# Altium schematic symbol library NNLightSwitcher.SchLib: 97 symbols (part 1 of 3)
Pins are listed as number, name and electrical type; pins without a type are passive.

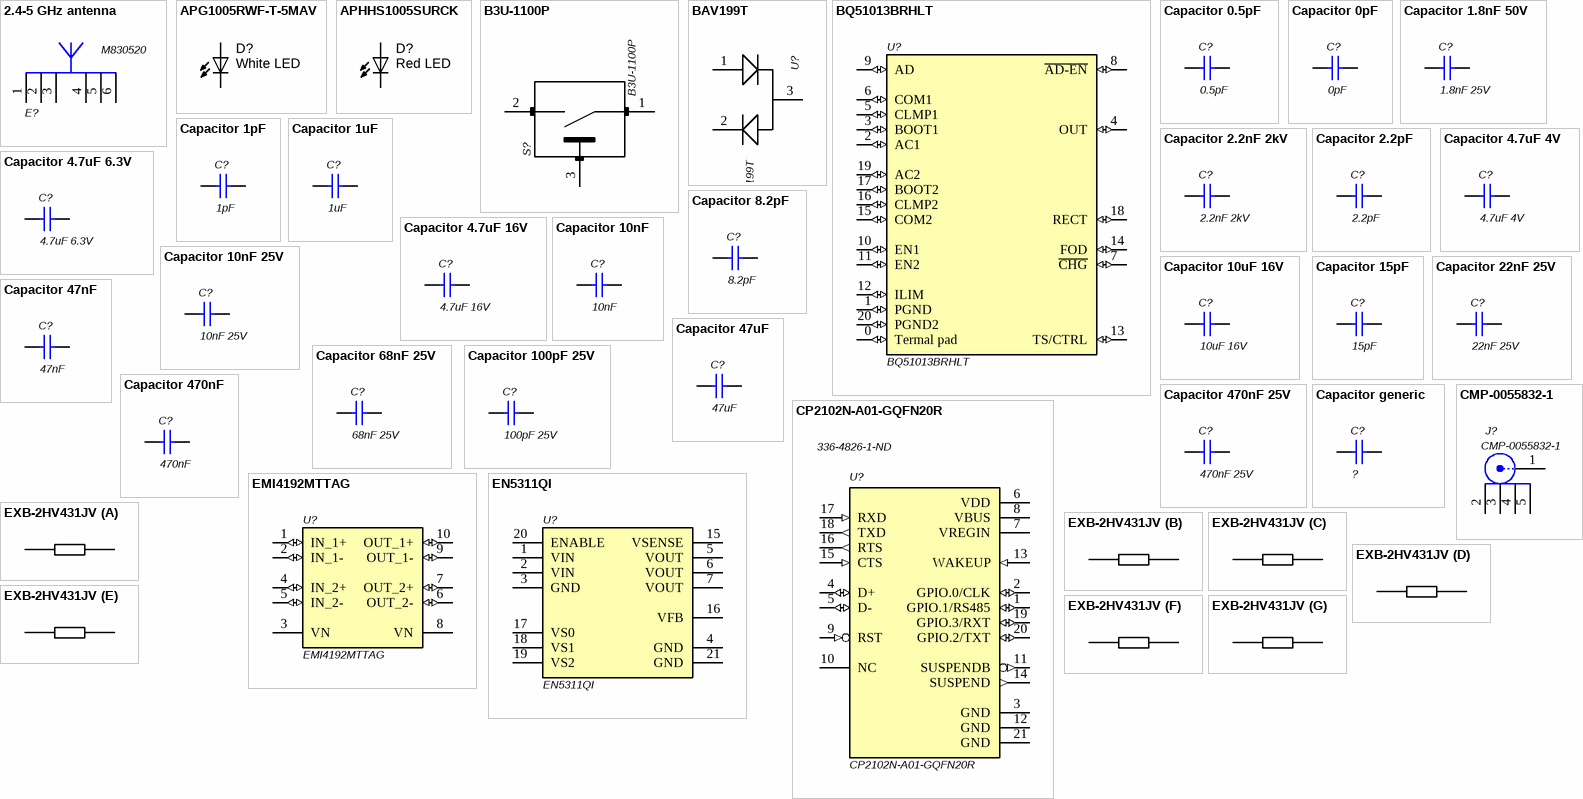
[diagram p0: symbols 2.4-5 GHz antenna to EXB-2HV431JV]

## 2.4-5 GHz antenna
designator E?, comment M830520
WLAN ANTENNA 802.11, SMD; Manufacturer 1: Ethertronics; ComponentLink1Description: Datasheet URL; ComponentLink1URL: http://www.ethertronics.com/files/6014/0708/4228/Savvi_WLAN__8x3_M830510.pdf; Supplier 1: Digi-Key; Manufacturer Part Number 1: M830520; Stock 1: 10391; Pricing 1: 1=2,09000, 10=1,87400, 25=1,76800, 100=1,50630, 250=1,41440, 500=1,23760 (USD); RoHS: No; ComponentLink2URL: https://media.digikey.com/pdf/Data%20Sheets/Ethertronics/M830520.pdf?src-supplier=Digi-Key; ComponentLink2Description: https://media.digikey.com/pdf/Data%20Sheets/Ethertronics/M830520.pdf?src-supplier=Digi-Key; Supplier Part Number 1: 939-1070-1-ND
footprint Ethertronics_M830520 (SMD, 6-Leads, Body 8x3mm)
pins: 1 Feed, 2 GND (power), 3 GND (power), 4 Feed, 5, 6

## APG1005RWF-T-5MAV
designator D?, comment White LED
LED red 0402 / APG1005RWF-T-5MAV; Manufacturer 1: Kingbright; Lens Color: Yellow; Luminous Intensity: 85mcd; Test Current: 5mA; Viewing Angle: 120°; Forward Voltage: 2.9V; ComponentLink1URL: https://datasheet.ciiva.com/15198/getdatasheetpartid-569583-15198505.pdf?src-supplier=Verical; ComponentLink1Description: https://datasheet.ciiva.com/15198/getdatasheetpartid-569583-15198505.pdf?src-supplier=Verical; ComponentLink2URL: https://datasheet.ciiva.com/2114/aphhs1005surck-2114140.pdf?src-supplier=Digi-Key; ComponentLink2Description: https://datasheet.ciiva.com/2114/aphhs1005surck-2114140.pdf?src-supplier=Digi-Key; ComponentLink3URL: https://datasheet.ciiva.com/4689/aphhs1005surck-32322-4689068.pdf?src-supplier=Mouser; ComponentLink3Description: https://datasheet.ciiva.com/4689/aphhs1005surck-32322-4689068.pdf?src-supplier=Mouser; ComponentLink4URL: https://datasheet.ciiva.com/14603/70062833-14603899.pdf?src-supplier=Allied+Electronics; ComponentLink4Description: https://datasheet.ciiva.com/14603/70062833-14603899.pdf?src-supplier=Allied+Electronics; ComponentLink5URL: https://datasheet.ciiva.com/2114/aphhs1005surck-2114141.pdf?src-supplier=Digi-Key; ComponentLink5Description: https://datasheet.ciiva.com/2114/aphhs1005surck-2114141.pdf?src-supplier=Digi-Key; ComponentLink6URL: https://datasheet.ciiva.com/2114/aphhs1005surck-2114142.pdf?src-supplier=Digi-Key; ComponentLink6Description: https://datasheet.ciiva.com/2114/aphhs1005surck-2114142.pdf?src-supplier=Digi-Key; Supplier 1: Digi-Key; Manufacturer Part Number 1: APG1005RWF-T-5MAV; Stock 1: 14703; Pricing 1: 1=0,61000, 10=0,47900, 100=0,30710, 500=0,26412, 1000=0,20393 (USD); RoHS: Yes; Mount: Surface Mount; Case/Package: 0402; Color: White; Case Code (Metric): 1005; Case Code (Imperial): 0402; Package Quantity: 1; Packaging: Tape and Reel; Length: 1mm; Height: 0.25mm; Width: 0.5mm; Lead Free: Lead Free; ComponentLink7URL: https://datasheet.ciiva.com/29562/apg1005rwf-t-5mav-29562261.pdf?src-supplier=Digi-Key; ComponentLink7Description: https://datasheet.ciiva.com/29562/apg1005rwf-t-5mav-29562261.pdf?src-supplier=Digi-Key; ComponentLink8URL: https://datasheet.ciiva.com/29562/apg1005rwf-t-5mav-29562262.pdf?src-supplier=Digi-Key; ComponentLink8Description: https://datasheet.ciiva.com/29562/apg1005rwf-t-5mav-29562262.pdf?src-supplier=Digi-Key; ComponentLink9URL: https://datasheet.ciiva.com/29562/apg1005rwf-t-5mav-29562263.pdf?src-supplier=Digi-Key; ComponentLink9Description: https://datasheet.ciiva.com/29562/apg1005rwf-t-5mav-29562263.pdf?src-supplier=Digi-Key
footprint *LED_SML-P11UTT86R_SML-P11MTT86(Primary)
pins: A, C

## APHHS1005SURCK
designator D?, comment Red LED
LED red 0402; Manufacturer 1: Kingbright; Manufacturer Part Number 1: APHHS1005SURCK; Lens Color: Clear; Forward Current: 20mA; Forward Voltage: 1.95V; Luminous Intensity: 220mcd; Viewing Angle: 120°; Lens Style: Clear,Flat; Dominant Wavelength: 630nm; Number of LEDs: 1; Wavelength: 635nm; ComponentLink1URL: https://datasheet.ciiva.com/15198/getdatasheetpartid-569583-15198505.pdf?src-supplier=Verical; ComponentLink1Description: https://datasheet.ciiva.com/15198/getdatasheetpartid-569583-15198505.pdf?src-supplier=Verical; Supplier 1: Digi-Key; Stock 1: 30423; Pricing 1: 1=0,42000, 10=0,30400, 100=0,19820, 500=0,14248, 1000=0,11151 (USD); RoHS: Yes; Mount: Surface Mount; Case/Package: 0402; Number of Pins: 2; Color: Red; Case Code (Metric): 1005; Case Code (Imperial): 0402; Min Operating Temperature: -40°C; Max Operating Temperature: 85°C; Illumination Color: Red; Packaging: Tape and Reel; Package Quantity: 2000; Test Current: 20mA; Length: 1mm; Height: 0.6mm; Width: 0.5mm; Lead Free: Lead Free; ComponentLink2URL: https://datasheet.ciiva.com/2114/aphhs1005surck-2114140.pdf?src-supplier=Digi-Key; ComponentLink2Description: https://datasheet.ciiva.com/2114/aphhs1005surck-2114140.pdf?src-supplier=Digi-Key; ComponentLink3URL: https://datasheet.ciiva.com/4689/aphhs1005surck-32322-4689068.pdf?src-supplier=Mouser; ComponentLink3Description: https://datasheet.ciiva.com/4689/aphhs1005surck-32322-4689068.pdf?src-supplier=Mouser; ComponentLink4URL: https://datasheet.ciiva.com/14603/70062833-14603899.pdf?src-supplier=Allied+Electronics; ComponentLink4Description: https://datasheet.ciiva.com/14603/70062833-14603899.pdf?src-supplier=Allied+Electronics; ComponentLink5URL: https://datasheet.ciiva.com/2114/aphhs1005surck-2114141.pdf?src-supplier=Digi-Key; ComponentLink5Description: https://datasheet.ciiva.com/2114/aphhs1005surck-2114141.pdf?src-supplier=Digi-Key; ComponentLink6URL: https://datasheet.ciiva.com/2114/aphhs1005surck-2114142.pdf?src-supplier=Digi-Key; ComponentLink6Description: https://datasheet.ciiva.com/2114/aphhs1005surck-2114142.pdf?src-supplier=Digi-Key
footprint *LED_SML-P11UTT86R_SML-P11MTT86(Primary)
pins: A, C

## B3U-1100P
designator S?
Switch Tactile N.O. SPST Projected Plunger PC Pins 0.05A 24VDC 1.47N Thru-Hole Bag; Manufacturer 1: Omron; Mechanical Life: 200000Cycles; Operating Force: 1.5N; Voltage Rating (DC): 12V; Contact Resistance: 100mR; Current Rating: 50mA; Illumination Type: Non-Illuminated,Illuminated; Switch Travel: 0.15mm; Switch Function: Off-Mom; Actuator Type: Standard; Actuator Length: 0.4mm; Ratings: Dust Proof; Supplier 1: Mouser; Manufacturer Part Number 1: B3U-1100P; Stock 1: 10341; Pricing 1: 1=1,00000, 10=0,96100, 25=0,90700, 50=0,79800, 100=0,72600, 250=0,68900, 500=0,61000, 1000=0,52600, 3500=0,51500, 10000=0,51500 (USD); RoHS: Yes; Mount: Surface Mount; Weight: 0.022g; Contact Plating: Silver; Min Operating Temperature: -25°C; Max Operating Temperature: 70°C; Throw Configuration: SPST; Packaging: Tape and Reel; Max Voltage Rating (DC): 12V; Package Quantity: 1; Electrical Life: 200000Cycles; Orientation: Straight; Termination: SMD/SMT; Max Current Rating: 50mA; Contact Current Rating: 50mA; Length: 3.15mm; Depth: 4mm; REACH SVHC: Unknown; Lead Free: Lead Free; ComponentLink1URL: https://datasheet.ciiva.com/1634/60838-1634404.pdf?src-supplier=Farnell; ComponentLink1Description: https://datasheet.ciiva.com/1634/60838-1634404.pdf?src-supplier=Farnell; ComponentLink2URL: https://datasheet.ciiva.com/30197/en-b3u-30197271.pdf?src-supplier=Onlinecomponents.com; ComponentLink2Description: https://datasheet.ciiva.com/30197/en-b3u-30197271.pdf?src-supplier=Onlinecomponents.com; ComponentLink3URL: https://datasheet.ciiva.com/22696/60838-22696216.pdf?src-supplier=Element14; ComponentLink3Description: https://datasheet.ciiva.com/22696/60838-22696216.pdf?src-supplier=Element14; ComponentLink4URL: https://datasheet.ciiva.com/2901/b3u-1110-2901097.pdf?src-supplier=Digi-Key; ComponentLink4Description: https://datasheet.ciiva.com/2901/b3u-1110-2901097.pdf?src-supplier=Digi-Key; ComponentLink5URL: https://datasheet.ciiva.com/2901/b3u-1110-2901098.pdf?src-supplier=Digi-Key; ComponentLink5Description: https://datasheet.ciiva.com/2901/b3u-1110-2901098.pdf?src-supplier=Digi-Key; ComponentLink6URL: https://datasheet.ciiva.com/2901/b3u-1110-2901099.pdf?src-supplier=Digi-Key; ComponentLink6Description: https://datasheet.ciiva.com/2901/b3u-1110-2901099.pdf?src-supplier=Digi-Key; ComponentLink7URL: https://datasheet.ciiva.com/1532/60838-1532684.pdf?src-supplier=Element14; ComponentLink7Description: https://datasheet.ciiva.com/1532/60838-1532684.pdf?src-supplier=Element14; ComponentLink8URL: https://datasheet.ciiva.com/14142/b3u-eng-datasheet-14142541.pdf?src-supplier=Distrelec; ComponentLink8Description: https://datasheet.ciiva.com/14142/b3u-eng-datasheet-14142541.pdf?src-supplier=Distrelec; ComponentLink9URL: https://datasheet.ciiva.com/16155/en-b3u-16155023.pdf?src-supplier=Onlinecomponents.com; ComponentLink9Description: https://datasheet.ciiva.com/16155/en-b3u-16155023.pdf?src-supplier=Onlinecomponents.com; Supplier Part Number 1: 653-B3U-1100P
footprint *SW_B3U-1100P
pins: 1, 2, 3

## BAV199T
designator U?
DIODE, SS, DUAL, 85V, 0.125A, SOT523; Diode Type: Standard Recovery; Forward Current If_AV_: 215mA; Repetitive Revers...; Manufacturer 1: Diodes; Manufacturer Part Number 1: BAS40-04-7-F; MF: Micro Commercial; Forward Current: 200mA; Reverse Recovery Time: 5ns; Peak Non-Repetitive Surge Current: 600mA; Max Repetitive Reverse Voltage (Vrrm): 40V; Forward Voltage: 1V; Capacitance: 5pF; Peak Reverse Current: 200nA; Power Rating: 350mW; Package: SOT-23 Micro Commercial; MP: BAV199T; Availability: Unavailable; Price: None; SnapEDA_Link: https://www.snapeda.com/parts/BAV199T/Micro%20Commercial/view-part/?ref=snap; Value: *; Supplier 1: Mouser; Stock 1: 161984; Pricing 1: 1=0,33000, 10=0,21700, 50=0,21700, 100=0,09300, 1000=0,07200, 3000=0,05400, 9000=0,04800, 10000=0,04800, 24000=0,04500 (USD); RoHS: Yes; Mount: Surface Mount; Case/Package: SOT-23; Number of Pins: 3; Weight: 0.000282oz; Contact Plating: Tin,Matte; Min Operating Temperature: -55°C; Max Operating Temperature: 125°C; Packaging: Tape and Reel; Package Quantity: 3000; Average Rectified Current: 200mA; Max Reverse Voltage (DC): 40V; Max Power Dissipation: 350mW; Max Forward Surge Current (Ifsm): 600mA; Power Dissipation: 350mW; Termination: SMD/SMT; Length: 3.05mm; Height: 1mm; Width: 1.4mm; Radiation Hardening: No; Lead Free: Lead Free; REACH SVHC: No SVHC; ComponentLink1URL: https://datasheet.ciiva.com/25946/ds11006-25946962.pdf?src-supplier=Avnet+Europe; ComponentLink1Description: https://datasheet.ciiva.com/25946/ds11006-25946962.pdf?src-supplier=Avnet+Europe; ComponentLink2URL: https://datasheet.ciiva.com/1177/ds11006-1177656.pdf?src-supplier=Element14; ComponentLink2Description: https://datasheet.ciiva.com/1177/ds11006-1177656.pdf?src-supplier=Element14; ComponentLink3URL: https://datasheet.ciiva.com/16379/ds11006-16379065.pdf?src-supplier=Future+Electronics; ComponentLink3Description: https://datasheet.ciiva.com/16379/ds11006-16379065.pdf?src-supplier=Future+Electronics; ComponentLink4URL: https://datasheet.ciiva.com/8303/ds11006-8303212.pdf?src-supplier=Avnet; ComponentLink4Description: https://datasheet.ciiva.com/8303/ds11006-8303212.pdf?src-supplier=Avnet; ComponentLink5URL: https://datasheet.ciiva.com/22695/1911827-22695788.pdf?src-supplier=Element14; ComponentLink5Description: https://datasheet.ciiva.com/22695/1911827-22695788.pdf?src-supplier=Element14; ComponentLink6URL: https://datasheet.ciiva.com/4715/ds11006-4715662.pdf?src-supplier=Mouser; ComponentLink6Description: https://datasheet.ciiva.com/4715/ds11006-4715662.pdf?src-supplier=Mouser; Supplier Part Number 1: 621-BAS40-04-F
footprint *SOT95P240X110-3N
pins: 1 ANODE, 2 CATHODE, 3 ANODE/CATHODE

## BQ51013BRHLT
designator U?
WPC 1.1 Compatible Fully Integrated Wireless Power Receiver IC 20-VQFN; Manufacturer 1: Texas Instruments; Operating Supply Current: 8mA; Output Current: 1.5A; Output Voltage: 5V; Min Supply Voltage: 4V; Max Supply Voltage: 10V; Output Power: 5W; Supplier 1: Digi-Key; Stock 1: 2807; Pricing 1: 1=4,02000, 10=3,58800, 25=3,22960, 100=2,94250 (USD); RoHS: Yes; Mount: Surface Mount; Case/Package: VQFN; Number of Pins: 20; Weight: 0.002469oz; Contact Plating: Gold; Min Operating Temperature: -40°C; Max Operating Temperature: 150°C; Packaging: Tape and Reel; Package Quantity: 250; Logic Function: Receiver; Length: 4.65mm; Height: 0.95mm; Width: 3.65mm; Lead Free: Lead Free; REACH SVHC: No SVHC; ComponentLink1URL: https://datasheet.ciiva.com/22691/1726308-22691764.pdf?src-supplier=Element14; ComponentLink1Description: https://datasheet.ciiva.com/22691/1726308-22691764.pdf?src-supplier=Element14; ComponentLink2URL: https://datasheet.ciiva.com/6602/bq51013b-6602581.pdf?src-supplier=Digi-Key; ComponentLink2Description: https://datasheet.ciiva.com/6602/bq51013b-6602581.pdf?src-supplier=Digi-Key; ComponentLink3URL: https://datasheet.ciiva.com/6602/bq51013b-6602582.pdf?src-supplier=Digi-Key; ComponentLink3Description: https://datasheet.ciiva.com/6602/bq51013b-6602582.pdf?src-supplier=Digi-Key; ComponentLink4URL: https://datasheet.ciiva.com/6602/bq51013b-6602583.pdf?src-supplier=Digi-Key; ComponentLink4Description: https://datasheet.ciiva.com/6602/bq51013b-6602583.pdf?src-supplier=Digi-Key; Manufacturer Part Number 1: BQ51013BRHLT
footprint *QFN-20(VQFN-20)
pins: 0 Termal pad (io), 1 PGND (io), 2 AC1 (io), 3 BOOT1 (io), 4 OUT (io), 5 CLMP1 (io), 6 COM1 (io), 7 ~{CHG} (io), 8 ~{AD-EN} (io), 9 AD (io), 10 EN1 (io), 11 EN2 (io), 12 ILIM (io), 13 TS/CTRL (io), 14 FOD (io), 15 COM2 (io), 16 CLMP2 (io), 17 BOOT2 (io), 18 RECT (io), 19 AC2 (io), 20 PGND2 (io)

## Capacitor 0.5pF
designator C?, comment 0.5pF
ComponentLink1Description: Datasheet link; ComponentLink1URL: http://www.yageo.com/documents/recent/UPY-GP_NP0_16V-to-50V_16.pdf
footprint 0402
pins: 1, 2

## Capacitor 0pF
designator C?, comment 0pF
ComponentLink1Description: Datasheet link; ComponentLink1URL: http://www.yageo.com/documents/recent/UPY-GP_NP0_16V-to-50V_16.pdf
footprint 0402
pins: 1, 2

## Capacitor 1.8nF 50V
designator C?, comment 1.8nF 25V
GRM155R71H182KA01D; Manufacturer 1: Murata; Material: Ceramic; Tolerance: 10%; Dielectric: X7R; Voltage Rating: 50V; ComponentLink1Description: Datasheet link; ComponentLink1URL: http://www.yageo.com/documents/recent/UPY-GP_NP0_16V-to-50V_16.pdf; Supplier 1: Digi-Key; Manufacturer Part Number 1: GRM155R71H182KA01D; Stock 1: 1524; Pricing 1: 1=0,10000, 10=0,02900, 100=0,01300, 500=0,00928, 1000=0,00729, 2500=0,00662, 5000=0,00610 (USD); RoHS: Yes; Mount: Surface Mount; Case/Package: 0402; Case Code (Metric): 1005; Case Code (Imperial): 0402; Min Operating Temperature: -55°C; Max Operating Temperature: 125°C; Capacitance: 1.8nF; Package Quantity: 1; Packaging: Tape and Reel; Voltage Rating (DC): 50V; Termination: SMD/SMT; Voltage: 50V; Length: 1mm; Height: 0.5mm; Width: 0.5mm; Thickness: 0.022inch; Depth: 0.5mm; Radiation Hardening: No; REACH SVHC: No SVHC; Lead Free: Lead Free; ComponentLink2URL: https://datasheet.ciiva.com/18184/getdatasheetpartid-199954-18184733.pdf?src-supplier=Verical; ComponentLink2Description: https://datasheet.ciiva.com/18184/getdatasheetpartid-199954-18184733.pdf?src-supplier=Verical; ComponentLink3URL: https://datasheet.ciiva.com/161/partnumbering-e-01-161462.pdf?src-supplier=Digi-Key; ComponentLink3Description: https://datasheet.ciiva.com/161/partnumbering-e-01-161462.pdf?src-supplier=Digi-Key; ComponentLink4URL: https://datasheet.ciiva.com/161/partnumbering-e-01-161463.pdf?src-supplier=Digi-Key; ComponentLink4Description: https://datasheet.ciiva.com/161/partnumbering-e-01-161463.pdf?src-supplier=Digi-Key; ComponentLink5URL: https://datasheet.ciiva.com/161/partnumbering-e-01-161464.pdf?src-supplier=Digi-Key; ComponentLink5Description: https://datasheet.ciiva.com/161/partnumbering-e-01-161464.pdf?src-supplier=Digi-Key; ComponentLink6URL: https://datasheet.ciiva.com/2989/product-2989404.pdf?src-supplier=Avnet; ComponentLink6Description: https://datasheet.ciiva.com/2989/product-2989404.pdf?src-supplier=Avnet; ComponentLink7URL: https://datasheet.ciiva.com/5422/product-5422047.pdf?src-supplier=Mouser; ComponentLink7Description: https://datasheet.ciiva.com/5422/product-5422047.pdf?src-supplier=Mouser
footprint 0402
pins: 1, 2

## Capacitor 1pF
designator C?, comment 1pF
ComponentLink1Description: Datasheet link; ComponentLink1URL: http://www.yageo.com/documents/recent/UPY-GP_NP0_16V-to-50V_16.pdf
footprint 0402
pins: 1, 2

## Capacitor 1uF
designator C?, comment 1uF
ComponentLink1Description: Datasheet link; ComponentLink1URL: http://www.yageo.com/documents/recent/UPY-GP_NP0_16V-to-50V_16.pdf
footprint 0402
pins: 1, 2

## Capacitor 2.2nF 2kV
designator C?, comment 2.2nF 2kV
ComponentLink1Description: Datasheet link; ComponentLink1URL: http://www.yageo.com/documents/recent/UPY-GP_NP0_16V-to-50V_16.pdf
footprint 0402
pins: 1, 2

## Capacitor 2.2pF
designator C?, comment 2.2pF
ComponentLink1Description: Datasheet link; ComponentLink1URL: http://www.yageo.com/documents/recent/UPY-GP_NP0_16V-to-50V_16.pdf
footprint 0402
pins: 1, 2

## Capacitor 4.7uF 4V
designator C?, comment 4.7uF 4V
ComponentLink1Description: Datasheet link; ComponentLink1URL: http://www.yageo.com/documents/recent/UPY-GP_NP0_16V-to-50V_16.pdf
footprint 0402
pins: 1, 2

## Capacitor 4.7uF 6.3V
designator C?, comment 4.7uF 6.3V
ComponentLink1Description: Datasheet link; ComponentLink1URL: http://www.yageo.com/documents/recent/UPY-GP_NP0_16V-to-50V_16.pdf
footprint *0603
pins: 1, 2

## Capacitor 4.7uF 16V
designator C?, comment 4.7uF 16V
GRM188R61C475KAAJ; Manufacturer 1: Murata; Manufacturer Part Number 1: GRM188R61C475KAAJD; Material: Ceramic; Tolerance: 10%; Dielectric: X5R; ComponentLink1Description: Datasheet link; ComponentLink1URL: http://www.yageo.com/documents/recent/UPY-GP_NP0_16V-to-50V_16.pdf; Supplier 1: Digi-Key; Stock 1: 258279; Pricing 1: 1=0,35000, 10=0,24600, 100=0,14730, 500=0,11050, 1000=0,09331 (USD); RoHS: Yes; Mount: Surface Mount; Case/Package: 0603; Weight: 0.000222oz; Case Code (Metric): 1608; Case Code (Imperial): 0603; Min Operating Temperature: -55°C; Max Operating Temperature: 85°C; Capacitance: 4.7uF; Voltage Rating (DC): 16V; Packaging: Tape and Reel; Voltage Rating: 16V; Termination: SMD/SMT; Package Quantity: 4000; Length: 1.6mm; Height: 0.8mm; Width: 0.8mm; Thickness: 0.037inch; Depth: 0.8mm; REACH SVHC: No SVHC; Lead Free: Lead Free; ComponentLink2URL: https://datasheet.ciiva.com/14813/595grm188r61c475kaaj23-14813668.pdf?src-supplier=Arrow; ComponentLink2Description: https://datasheet.ciiva.com/14813/595grm188r61c475kaaj23-14813668.pdf?src-supplier=Arrow
footprint *0603
pins: 1, 2

## Capacitor 8.2pF
designator C?, comment 8.2pF
ComponentLink1Description: Datasheet link; ComponentLink1URL: http://www.yageo.com/documents/recent/UPY-GP_NP0_16V-to-50V_16.pdf
footprint 0402
pins: 1, 2

## Capacitor 10nF
designator C?, comment 10nF
ComponentLink1Description: Datasheet link; ComponentLink1URL: http://www.yageo.com/documents/recent/UPY-GP_NP0_16V-to-50V_16.pdf
footprint 0402
pins: 1, 2

## Capacitor 10nF 25V
designator C?, comment 10nF 25V
GRM155R71E103KA01D; Manufacturer 1: Murata; Material: Ceramic; Tolerance: 10%; Dielectric: X7R; Insulation Resistance: 10GR; ComponentLink1Description: Datasheet link; ComponentLink1URL: http://www.yageo.com/documents/recent/UPY-GP_NP0_16V-to-50V_16.pdf; Supplier 1: Digi-Key; Manufacturer Part Number 1: GRM155R71E103KA01D; Stock 1: 8764399; Pricing 1: 1=0,10000, 10=0,02900, 100=0,01300, 500=0,00928, 1000=0,00729, 2500=0,00662, 5000=0,00610 (USD); RoHS: Yes; Mount: Surface Mount; Case/Package: 0402; Number of Pins: 2; Case Code (Imperial): 0402; Case Code (Metric): 1005; Dielectric Material: Ceramic; Min Operating Temperature: -55°C; Max Operating Temperature: 125°C; Capacitance: 10nF; Packaging: Tape and Reel; Voltage Rating: 25V; Voltage Rating (DC): 25V; Package Quantity: 1; Termination: SMD/SMT; Voltage: 25V; Length: 1mm; Height: 0.5mm; Width: 0.5mm; Thickness: 0.022inch; Depth: 0.5mm; Radiation Hardening: No; REACH SVHC: No SVHC; Lead Free: Lead Free; ComponentLink2URL: https://datasheet.ciiva.com/11786/0900766b807a1cab-11786320.pdf?src-supplier=RSComponents; ComponentLink2Description: https://datasheet.ciiva.com/11786/0900766b807a1cab-11786320.pdf?src-supplier=RSComponents; ComponentLink3URL: https://datasheet.ciiva.com/18184/getdatasheetpartid-161489-18184689.pdf?src-supplier=Verical; ComponentLink3Description: https://datasheet.ciiva.com/18184/getdatasheetpartid-161489-18184689.pdf?src-supplier=Verical; ComponentLink4URL: https://datasheet.ciiva.com/28534/1699889-28534148.pdf?src-supplier=Element14; ComponentLink4Description: https://datasheet.ciiva.com/28534/1699889-28534148.pdf?src-supplier=Element14; ComponentLink5URL: https://datasheet.ciiva.com/3777/3813grm155r71e103ka0123-3777115.pdf?src-supplier=Arrow; ComponentLink5Description: https://datasheet.ciiva.com/3777/3813grm155r71e103ka0123-3777115.pdf?src-supplier=Arrow; ComponentLink6URL: https://datasheet.ciiva.com/129/partnumbering-e-01-129741.pdf?src-supplier=Digi-Key; ComponentLink6Description: https://datasheet.ciiva.com/129/partnumbering-e-01-129741.pdf?src-supplier=Digi-Key; ComponentLink7URL: https://datasheet.ciiva.com/129/partnumbering-e-01-129742.pdf?src-supplier=Digi-Key; ComponentLink7Description: https://datasheet.ciiva.com/129/partnumbering-e-01-129742.pdf?src-supplier=Digi-Key; ComponentLink8URL: https://datasheet.ciiva.com/129/partnumbering-e-01-129743.pdf?src-supplier=Digi-Key; ComponentLink8Description: https://datasheet.ciiva.com/129/partnumbering-e-01-129743.pdf?src-supplier=Digi-Key; ComponentLink9URL: https://datasheet.ciiva.com/29199/454154-da-01-en-vs-kondensator-0402-29199817.pdf?src-supplier=Conrad; ComponentLink9Description: https://datasheet.ciiva.com/29199/454154-da-01-en-vs-kondensator-0402-29199817.pdf?src-supplier=Conrad; ComponentLink10URL: https://datasheet.ciiva.com/7937/1747448-7937621.pdf?src-supplier=Element14; ComponentLink10Description: https://datasheet.ciiva.com/7937/1747448-7937621.pdf?src-supplier=Element14; ComponentLink11URL: https://datasheet.ciiva.com/16199/product-16199034.pdf?src-supplier=Future+Electronics; ComponentLink11Description: https://datasheet.ciiva.com/16199/product-16199034.pdf?src-supplier=Future+Electronics
footprint 0402
pins: 1, 2

## Capacitor 10uF 16V
designator C?, comment 10uF 16V
EMK107BBJ106MA-T; Manufacturer 1: Taiyo Yuden; Tolerance: 20%; Dielectric: X5R; ComponentLink1Description: Datasheet link; ComponentLink1URL: http://www.yageo.com/documents/recent/UPY-GP_NP0_16V-to-50V_16.pdf; Supplier 1: Digi-Key; Manufacturer Part Number 1: EMK107BBJ106MA-T; Stock 1: 576511; Pricing 1: 1=0,44000, 10=0,30600, 100=0,18370, 500=0,13778, 1000=0,11635 (USD); RoHS: Yes; Mount: Surface Mount; Case/Package: 0603; Case Code (Metric): 1608; Case Code (Imperial): 0603; Min Operating Temperature: -55°C; Max Operating Temperature: 85°C; Capacitance: 10uF; Packaging: Tape and Reel; Voltage Rating: 16V; Package Quantity: 1; Termination: SMD/SMT; Voltage Rating (DC): 16V; Length: 0.063inch; Height: 0.8mm; Width: 0.031inch; Thickness: 0.031inch; REACH SVHC: Unknown; Halogen Free: Halogen Free; ComponentLink2URL: https://datasheet.ciiva.com/6259/emk107bbj106ma-t-6259169.pdf?src-supplier=Digi-Key; ComponentLink2Description: https://datasheet.ciiva.com/6259/emk107bbj106ma-t-6259169.pdf?src-supplier=Digi-Key; ComponentLink3URL: https://datasheet.ciiva.com/15920/3emk107bbj106ma-t-15920482.pdf?src-supplier=Onlinecomponents.com; ComponentLink3Description: https://datasheet.ciiva.com/15920/3emk107bbj106ma-t-15920482.pdf?src-supplier=Onlinecomponents.com; ComponentLink4URL: https://datasheet.ciiva.com/34372/463emk107bbj106ma-t-34372674.pdf?src-supplier=Onlinecomponents.com; ComponentLink4Description: https://datasheet.ciiva.com/34372/463emk107bbj106ma-t-34372674.pdf?src-supplier=Onlinecomponents.com; ComponentLink5URL: https://datasheet.ciiva.com/6259/emk107bbj106ma-t-6259164.pdf?src-supplier=Digi-Key; ComponentLink5Description: https://datasheet.ciiva.com/6259/emk107bbj106ma-t-6259164.pdf?src-supplier=Digi-Key; ComponentLink6URL: https://datasheet.ciiva.com/6259/emk107bbj106ma-t-6259167.pdf?src-supplier=Digi-Key; ComponentLink6Description: https://datasheet.ciiva.com/6259/emk107bbj106ma-t-6259167.pdf?src-supplier=Digi-Key; ComponentLink7URL: https://datasheet.ciiva.com/13168/mlcc01-e-13168735.pdf?src-supplier=Mouser; ComponentLink7Description: https://datasheet.ciiva.com/13168/mlcc01-e-13168735.pdf?src-supplier=Mouser
footprint *0603
pins: 1, 2

## Capacitor 15pF
designator C?, comment 15pF
ComponentLink1Description: Datasheet link; ComponentLink1URL: http://www.yageo.com/documents/recent/UPY-GP_NP0_16V-to-50V_16.pdf
footprint 0402
pins: 1, 2

## Capacitor 22nF 25V
designator C?, comment 22nF 25V
GRM155R71E223KA61D; Manufacturer 1: Murata; Tolerance: 10%; Dielectric: X7R; ComponentLink1Description: Datasheet link; ComponentLink1URL: http://www.yageo.com/documents/recent/UPY-GP_NP0_16V-to-50V_16.pdf; Supplier 1: Digi-Key; Manufacturer Part Number 1: GRM155R71E223KA61D; Stock 1: 876310; Pricing 1: 1=0,10000, 10=0,05300, 100=0,02370, 500=0,01690, 1000=0,01328, 2500=0,01208, 5000=0,01111 (USD); RoHS: Yes; Mount: Surface Mount; Case/Package: 0402; Case Code (Metric): 1005; Case Code (Imperial): 0402; Min Operating Temperature: -55°C; Max Operating Temperature: 125°C; Capacitance: 22nF; Packaging: Tape and Reel; Package Quantity: 1; Voltage Rating: 25V; Termination: SMD/SMT; Voltage: 25V; Voltage Rating (DC): 25V; Length: 1mm; Height: 0.5mm; Width: 0.02inch; Thickness: 0.022inch; Depth: 0.5mm; Radiation Hardening: No; REACH SVHC: No SVHC; Lead Free: Lead Free; ComponentLink2URL: https://datasheet.ciiva.com/131/product-131108.pdf?src-supplier=Digi-Key; ComponentLink2Description: https://datasheet.ciiva.com/131/product-131108.pdf?src-supplier=Digi-Key; ComponentLink3URL: https://datasheet.ciiva.com/131/grm155r71e223ka61-01-131110.pdf?src-supplier=Digi-Key; ComponentLink3Description: https://datasheet.ciiva.com/131/grm155r71e223ka61-01-131110.pdf?src-supplier=Digi-Key; ComponentLink4URL: https://datasheet.ciiva.com/18184/getdatasheetpartid-178879-18184701.pdf?src-supplier=Verical; ComponentLink4Description: https://datasheet.ciiva.com/18184/getdatasheetpartid-178879-18184701.pdf?src-supplier=Verical; ComponentLink5URL: https://datasheet.ciiva.com/14103/grmseries-highdielectrictype-eng-14103752.pdf?src-supplier=Distrelec; ComponentLink5Description: https://datasheet.ciiva.com/14103/grmseries-highdielectrictype-eng-14103752.pdf?src-supplier=Distrelec; ComponentLink6URL: https://datasheet.ciiva.com/5414/product-5414091.pdf?src-supplier=Mouser; ComponentLink6Description: https://datasheet.ciiva.com/5414/product-5414091.pdf?src-supplier=Mouser; ComponentLink7URL: https://datasheet.ciiva.com/16396/product-16396813.pdf?src-supplier=Future+Electronics; ComponentLink7Description: https://datasheet.ciiva.com/16396/product-16396813.pdf?src-supplier=Future+Electronics; ComponentLink8URL: https://datasheet.ciiva.com/2989/product-2989390.pdf?src-supplier=Avnet; ComponentLink8Description: https://datasheet.ciiva.com/2989/product-2989390.pdf?src-supplier=Avnet
footprint 0402
pins: 1, 2

## Capacitor 47nF
designator C?, comment 47nF
ComponentLink1Description: Datasheet link; ComponentLink1URL: http://www.yageo.com/documents/recent/UPY-GP_NP0_16V-to-50V_16.pdf
footprint 0402
pins: 1, 2

## Capacitor 47uF
designator C?, comment 47uF
ComponentLink1Description: Datasheet link; ComponentLink1URL: http://www.yageo.com/documents/recent/UPY-GP_NP0_16V-to-50V_16.pdf
footprint Res_0805
pins: 1, 2

## Capacitor 68nF 25V
designator C?, comment 68nF 25V
CAP CER 0.068UF 25V X7R 0603CC0603KRX7R8BB683; Manufacturer 1: Yageo; Tolerance: 10%; ComponentLink1Description: Datasheet link; ComponentLink1URL: http://www.yageo.com/documents/recent/UPY-GP_NP0_16V-to-50V_16.pdf; Supplier 1: Digi-Key; Manufacturer Part Number 1: CC0603KRX7R8BB683; Stock 1: 55162; Pricing 1: 1=0,11000, 10=0,08400, 100=0,03740, 500=0,02672, 1000=0,02099 (USD); RoHS: Yes; Mount: Surface Mount; Case/Package: 0603; Number of Pins: 2; Weight: 7.1E-05oz; Case Code (Imperial): 0603; Case Code (Metric): 1608; Min Operating Temperature: -55°C; Max Operating Temperature: 125°C; Capacitance: 68nF; Dielectric: X7R; Voltage Rating: 25V; Voltage Rating (DC): 25V; Packaging: Tape and Reel; Termination: SMD/SMT; Composition: Ceramic; Voltage: 25V; Length: 1.6mm; Height: 0.8mm; Width: 0.8mm; Thickness: 0.035inch; Depth: 0.8mm; Radiation Hardening: No; Lead Free: Lead Free; Halogen Free: Halogen Free; ComponentLink2URL: https://datasheet.ciiva.com/11786/0900766b80c10176-11786209.pdf?src-supplier=RSComponents; ComponentLink2Description: https://datasheet.ciiva.com/11786/0900766b80c10176-11786209.pdf?src-supplier=RSComponents; ComponentLink3URL: https://datasheet.ciiva.com/26862/getdatasheetpartid-403581-26862844.pdf?src-supplier=Verical; ComponentLink3Description: https://datasheet.ciiva.com/26862/getdatasheetpartid-403581-26862844.pdf?src-supplier=Verical; ComponentLink4URL: https://datasheet.ciiva.com/11465/upy-gphc-x7r-6-3v-to-50v-8-11465211.pdf?src-supplier=Avnet; ComponentLink4Description: https://datasheet.ciiva.com/11465/upy-gphc-x7r-6-3v-to-50v-8-11465211.pdf?src-supplier=Avnet; ComponentLink5URL: https://datasheet.ciiva.com/17434/upy-gphc-x7r-6-3v-to-50v-8-17434638.pdf?src-supplier=Avnet+Europe; ComponentLink5Description: https://datasheet.ciiva.com/17434/upy-gphc-x7r-6-3v-to-50v-8-17434638.pdf?src-supplier=Avnet+Europe
footprint *0603
pins: 1, 2

## Capacitor 100pF 25V
designator C?, comment 100pF 25V
GRM033R71E101KA01D; Manufacturer 1: Murata; Material: Ceramic; Tolerance: 10%; Dielectric: X7R; ComponentLink1Description: Datasheet link; ComponentLink1URL: http://www.yageo.com/documents/recent/UPY-GP_NP0_16V-to-50V_16.pdf; Supplier 1: Digi-Key; Manufacturer Part Number 1: GRM033R71E101KA01D; Stock 1: 726781; Pricing 1: 1=0,10000, 10=0,02700, 100=0,01190, 500=0,00848, 1000=0,00666, 2500=0,00605, 5000=0,00557 (USD); RoHS: Yes; Mount: Surface Mount; Case/Package: 0201; Case Code (Imperial): 0201; Case Code (Metric): 0603; Min Operating Temperature: -55°C; Max Operating Temperature: 125°C; Capacitance: 100pF; Packaging: Tape and Reel; Voltage Rating: 25V; Voltage Rating (DC): 25V; Package Quantity: 1; Termination: SMD/SMT; Voltage: 25V; Length: 0.6mm; Height: 0.3mm; Width: 0.3mm; Thickness: 0.013inch; Depth: 0.3mm; Radiation Hardening: No; Lead Free: Lead Free; ComponentLink2URL: https://datasheet.ciiva.com/18184/getdatasheetpartid-228478-18184102.pdf?src-supplier=Verical; ComponentLink2Description: https://datasheet.ciiva.com/18184/getdatasheetpartid-228478-18184102.pdf?src-supplier=Verical; ComponentLink3URL: https://datasheet.ciiva.com/129/grm033r71e101ka01-01-129915.pdf?src-supplier=Digi-Key; ComponentLink3Description: https://datasheet.ciiva.com/129/grm033r71e101ka01-01-129915.pdf?src-supplier=Digi-Key; ComponentLink4URL: https://datasheet.ciiva.com/129/grm033r71e101ka01-01-129916.pdf?src-supplier=Digi-Key; ComponentLink4Description: https://datasheet.ciiva.com/129/grm033r71e101ka01-01-129916.pdf?src-supplier=Digi-Key; ComponentLink5URL: https://datasheet.ciiva.com/129/grm033r71e101ka01-01-129917.pdf?src-supplier=Digi-Key; ComponentLink5Description: https://datasheet.ciiva.com/129/grm033r71e101ka01-01-129917.pdf?src-supplier=Digi-Key; ComponentLink6URL: https://datasheet.ciiva.com/29199/455792-da-01-en-vs-kondensator-0201-29199171.pdf?src-supplier=Conrad; ComponentLink6Description: https://datasheet.ciiva.com/29199/455792-da-01-en-vs-kondensator-0201-29199171.pdf?src-supplier=Conrad; ComponentLink7URL: https://datasheet.ciiva.com/11605/product-11605541.pdf?src-supplier=Avnet; ComponentLink7Description: https://datasheet.ciiva.com/11605/product-11605541.pdf?src-supplier=Avnet; ComponentLink8URL: https://datasheet.ciiva.com/16370/product-16370826.pdf?src-supplier=Future+Electronics; ComponentLink8Description: https://datasheet.ciiva.com/16370/product-16370826.pdf?src-supplier=Future+Electronics
footprint 0402
pins: 1, 2

## Capacitor 470nF
designator C?, comment 470nF
ComponentLink1Description: Datasheet link; ComponentLink1URL: http://www.yageo.com/documents/recent/UPY-GP_NP0_16V-to-50V_16.pdf
footprint 0402
pins: 1, 2

## Capacitor 470nF 25V
designator C?, comment 470nF 25V
GRM188R71E474KA12D; Manufacturer 1: Murata; Material: Ceramic; Tolerance: 10%; Dielectric: X7R; Voltage: 50V; ComponentLink1Description: Datasheet link; ComponentLink1URL: http://www.yageo.com/documents/recent/UPY-GP_NP0_16V-to-50V_16.pdf; Supplier 1: Digi-Key; Manufacturer Part Number 1: GRM188R71E474KA12D; Stock 1: 3228065; Pricing 1: 1=0,25000, 10=0,16800, 100=0,08520, 500=0,05832, 1000=0,05159 (USD); RoHS: Yes; Mount: Surface Mount; Case/Package: 0603; Number of Pins: 2; Case Code (Metric): 1608; Case Code (Imperial): 0603; Min Operating Temperature: -55°C; Max Operating Temperature: 125°C; Capacitance: 470nF; Packaging: Tape and Reel; Voltage Rating: 25V; Package Quantity: 4000; Voltage Rating (DC): 25V; Termination: SMD/SMT; Length: 1.6mm; Height: 0.8mm; Width: 0.031inch; Thickness: 0.035inch; Depth: 0.8mm; REACH SVHC: No SVHC; Lead Free: Lead Free; ComponentLink2URL: https://datasheet.ciiva.com/16293/grm188r71e474ka12d-16293088.pdf?src-supplier=Future+Electronics; ComponentLink2Description: https://datasheet.ciiva.com/16293/grm188r71e474ka12d-16293088.pdf?src-supplier=Future+Electronics; ComponentLink3URL: https://datasheet.ciiva.com/34302/1857559-34302862.pdf?src-supplier=Jameco; ComponentLink3Description: https://datasheet.ciiva.com/34302/1857559-34302862.pdf?src-supplier=Jameco; ComponentLink4URL: https://datasheet.ciiva.com/7937/1747458-7937650.pdf?src-supplier=Element14; ComponentLink4Description: https://datasheet.ciiva.com/7937/1747458-7937650.pdf?src-supplier=Element14; ComponentLink5URL: https://datasheet.ciiva.com/134/grm188r71e474ka12-01-134310.pdf?src-supplier=Digi-Key; ComponentLink5Description: https://datasheet.ciiva.com/134/grm188r71e474ka12-01-134310.pdf?src-supplier=Digi-Key; ComponentLink6URL: https://datasheet.ciiva.com/29199/454518-da-01-en-vs-kondensator-0603-29199596.pdf?src-supplier=Conrad; ComponentLink6Description: https://datasheet.ciiva.com/29199/454518-da-01-en-vs-kondensator-0603-29199596.pdf?src-supplier=Conrad; ComponentLink7URL: https://datasheet.ciiva.com/22703/1747458-22703340.pdf?src-supplier=Element14; ComponentLink7Description: https://datasheet.ciiva.com/22703/1747458-22703340.pdf?src-supplier=Element14; ComponentLink8URL: https://datasheet.ciiva.com/134/grm188r71e474ka12-01-134309.pdf?src-supplier=Digi-Key; ComponentLink8Description: https://datasheet.ciiva.com/134/grm188r71e474ka12-01-134309.pdf?src-supplier=Digi-Key; ComponentLink9URL: https://datasheet.ciiva.com/134/grm188r71e474ka12-01-134308.pdf?src-supplier=Digi-Key; ComponentLink9Description: https://datasheet.ciiva.com/134/grm188r71e474ka12-01-134308.pdf?src-supplier=Digi-Key
footprint 0402
pins: 1, 2

## Capacitor generic
designator C?, comment ?
ComponentLink1Description: Datasheet link; ComponentLink1URL: http://www.yageo.com/documents/recent/UPY-GP_NP0_16V-to-50V_16.pdf
footprint 0402
pins: 1, 2

## CMP-0055832-1
designator J?
Connector, SMA, Vertical, Gold, SMT; PartNumber: SMA-10V21-TGG; Manufacturer: Hus-Tsan Group Co., Ltd.; Alternate Manufacturer: 傲创; Alternate PartNumber: SMA-050710; CT: TRUE; CNHeader: FALSE; PackageReference: SMD, 4-Leads, Body 7.1x7.1mm; CompType: SMA; RoHS: Y; MountType: SMT; ComponentLink1Description: Datasheet URL; ComponentLink1URL: https://sps06.itg.ti.com/sites/KMS/crossdivteams/altium/docs/ComponentDatasheets/SMA-10V21.pdf; Publisher: Texas Instruments; LatestRevisionDate: 26/05/2017
footprint Hustsan_SMA-10V21-TGG (SMD, 4-Leads, Body 7.1x7.1mm)
footprint Hustsan_SMA-10V21-TGG (SMD, 4-Leads, Body 7.1x7.1mm)
pins: 1, 2, 3, 4, 5

## CP2102N-A01-GQFN20R
designator U?  Supplier Part Number 2: 336-4826-1-ND
Ic Bridge Usb To Uart 20qfn; Manufacturer 1: Silicon Labs; Supplier 1: Mouser; Manufacturer Part Number 1: CP2102N-A01-GQFN20R; Stock 1: 3771; Pricing 1: 1=1,33000, 10=1,31000, 25=1,28000, 50=1,26000, 100=1,23000, 250=1,21000, 500=1,19000, 1000=1,15000, 10000=1,15000 (USD); RoHS: No; ComponentLink1URL: https://www.silabs.com/documents/public/data-sheets/cp2102n-datasheet.pdf?src-supplier=Digi-Key; ComponentLink1Description: https://www.silabs.com/documents/public/data-sheets/cp2102n-datasheet.pdf?src-supplier=Digi-Key; Supplier 2: Digi-Key; Manufacturer 2: Silicon Labs; Manufacturer Part Number 2: CP2102N-A01-GQFN20R; Stock 2: 12524; Pricing 2: 1=1,33000, 25=1,28080, 100=1,23170 (USD); Supplier Part Number 1: 634-CP21NA01GQFN20R
footprint *SILABS_QFN20
pins: 1 GPIO.1/RS485 (io), 2 GPIO.0/CLK (io), 3 GND (power), 4 D+ (io), 5 D- (io), 6 VDD (power), 7 VREGIN (power), 8 VBUS (power), 9 RST (in), 10 NC, 11 SUSPENDB (out), 12 GND (power), 13 WAKEUP (in), 14 SUSPEND (out), 15 CTS (in), 16 RTS (out), 17 RXD (in), 18 TXD (out), 19 GPIO.3/RXT (io), 20 GPIO.2/TXT (io), 21 GND (power)

## EMI4192MTTAG
designator U?
Common Mode Filter with ESD Protection, -40 to 85 degC, 10-Pin WDFN, Pb-Free, Tape and Reel; Manufacturer 1: ON Semiconductor; Number of Lines: 4; Impedance: 32R; Max Current Rating: 100mA; Capacitance: 0.8pF; DC Resistance (DCR): 5R; Direction: Unidirectional; Clamping Voltage: 18V; Min Breakdown Voltage: 5.6V; Reverse Standoff Voltage: 5V; ESD Protection: Yes; Max Reverse Leakage Current: 1uA; Test Current: 1mA; ComponentLink1Description: Manufacturer URL; ComponentLink2Description: Datasheet; ComponentLink3Description: Package Specification; ComponentLink3URL: http://www.onsemi.cn/pub_link/Collateral/511BM.PDF; ComponentLink1URL: http://www.onsemi.com/; ComponentLink2URL: http://www.onsemi.cn/pub_link/Collateral/EMI4192-D.PDF; Supplier 1: Digi-Key; Manufacturer Part Number 1: EMI4192MTTAG; Stock 1: 1265; Pricing 1: 1=0,77000, 10=0,68000, 100=0,52120, 500=0,41200, 1000=0,32960 (USD); RoHS: Yes; Number of Pins: 10; Min Operating Temperature: -40°C; Max Operating Temperature: 85°C; Package Quantity: 3000; Packaging: Tape and Reel; Current: 100mA; Max DC Current: 100mA; Termination: Flat; Length: 2.5mm; Height: 0.031inch; Width: 2mm; Depth: 2mm; Radiation Hardening: No; Lead Free: Lead Free; Halogen Free: Halogen Free; ComponentLink4URL: https://datasheet.ciiva.com/6215/emi4192-d-6215568.pdf?src-supplier=Digi-Key; ComponentLink4Description: https://datasheet.ciiva.com/6215/emi4192-d-6215568.pdf?src-supplier=Digi-Key; ComponentLink5URL: https://datasheet.ciiva.com/12394/emi4192-d-117518-12394999.pdf?src-supplier=Mouser; ComponentLink5Description: https://datasheet.ciiva.com/12394/emi4192-d-117518-12394999.pdf?src-supplier=Mouser; Supplier 2: Mouser; Manufacturer 2: ON Semiconductor; Manufacturer Part Number 2: EMI4192MTTAG; Stock 2: 304; Pricing 2: 1=0,74000, 10=0,62000, 50=0,62000, 100=0,40000, 1000=0,32000, 3000=0,27100, 9000=0,26100, 10000=0,26100, 24000=0,25000, 45000=0,24700, 99000=0,24100 (USD); Supplier Part Number 1: EMI4192MTTAGOSCT-ND; Supplier Part Number 2: 863-EMI4192MTTAG
footprint ONSC-WDFN-10-511BM-01_V
pins: 1 IN_1+ (io) "CMF Channel 1+ to Connector (External)", 2 IN_1- (io) "CMF Channel 1- to Connector (External)", 3 VN (power) "Ground", 4 IN_2+ (io) "CMF Channel 1+ to Connector (External)", 5 IN_2- (io) "CMF Channel 1- to Connector (External)", 6 OUT_2- (io) "CMF Channel 2- to ASIC (Internal)", 7 OUT_2+ (io) "CMF Channel 2+ to ASIC (Internal)", 8 VN (power) "Ground", 9 OUT_1- (io) "CMF Channel 1- to ASIC (Internal)", 10 OUT_1+ (io) "CMF Channel 1+ to ASIC (Internal)"

## EN5311QI
designator U?
1A DC-DC Step-Down Converter; Manufacturer 1: Intel Altera; Output Voltage: 6V; Switching Frequency: 4MHz; Number of Outputs: 1; Efficiency: 95%; Min Input Voltage: 2.4V; Max Input Voltage: 6.6V; Max Power Dissipation: 6W; Operating Supply Current: 750nA; Min Output Voltage: 600mV; Max Output Voltage: 4.9V; Output Type: Adjustable; ComponentLink1Description: Datasheet URL; ComponentLink1URL: https://sps06.itg.ti.com/sites/KMS/crossdivteams/altium/docs/ComponentDatasheets/DPX165950DT-8148A1.pdf; Supplier 1: Mouser; Manufacturer Part Number 1: EN5311QI; Stock 1: 0; RoHS: Yes; Mount: Surface Mount; Case/Package: QFN; Number of Pins: 20; Weight: 0.002751oz; Min Operating Temperature: -40°C; Max Operating Temperature: 85°C; Output Current: 1A; Package Quantity: 1; Packaging: Cut Tape; Voltage - Output 1: 6V; Max Output Current: 1A; Features: UVLO,OCP,OTP,SCP; Min Supply Voltage: 2.4V; Length: 0.2inch; Height: 0.04inch; Width: 0.16inch; Radiation Hardening: No; REACH SVHC: No SVHC; ComponentLink2URL: https://datasheet.ciiva.com/1162/1525802-1162514.pdf?src-supplier=Element14; ComponentLink2Description: https://datasheet.ciiva.com/1162/1525802-1162514.pdf?src-supplier=Element14; ComponentLink3URL: https://datasheet.ciiva.com/26927/getdatasheetpartid-755172-26927834.pdf?src-supplier=Verical; ComponentLink3Description: https://datasheet.ciiva.com/26927/getdatasheetpartid-755172-26927834.pdf?src-supplier=Verical; ComponentLink4URL: https://datasheet.ciiva.com/29378/en5311qi-03799-29378571.pdf?src-supplier=Digi-Key; ComponentLink4Description: https://datasheet.ciiva.com/29378/en5311qi-03799-29378571.pdf?src-supplier=Digi-Key; ComponentLink5URL: https://datasheet.ciiva.com/29378/en5311qi-03799-29378573.pdf?src-supplier=Digi-Key; ComponentLink5Description: https://datasheet.ciiva.com/29378/en5311qi-03799-29378573.pdf?src-supplier=Digi-Key; Supplier Part Number 1: 884-EN5311QI
footprint *QFN_20-PIN_ATMEL_20M1
pins: 1 VIN, 2 VIN, 3 GND (power), 4 GND (power), 5 VOUT, 6 VOUT, 7 VOUT, 15 VSENSE, 16 VFB (power), 17 VS0, 18 VS1, 19 VS2, 20 ENABLE, 21 GND (power)

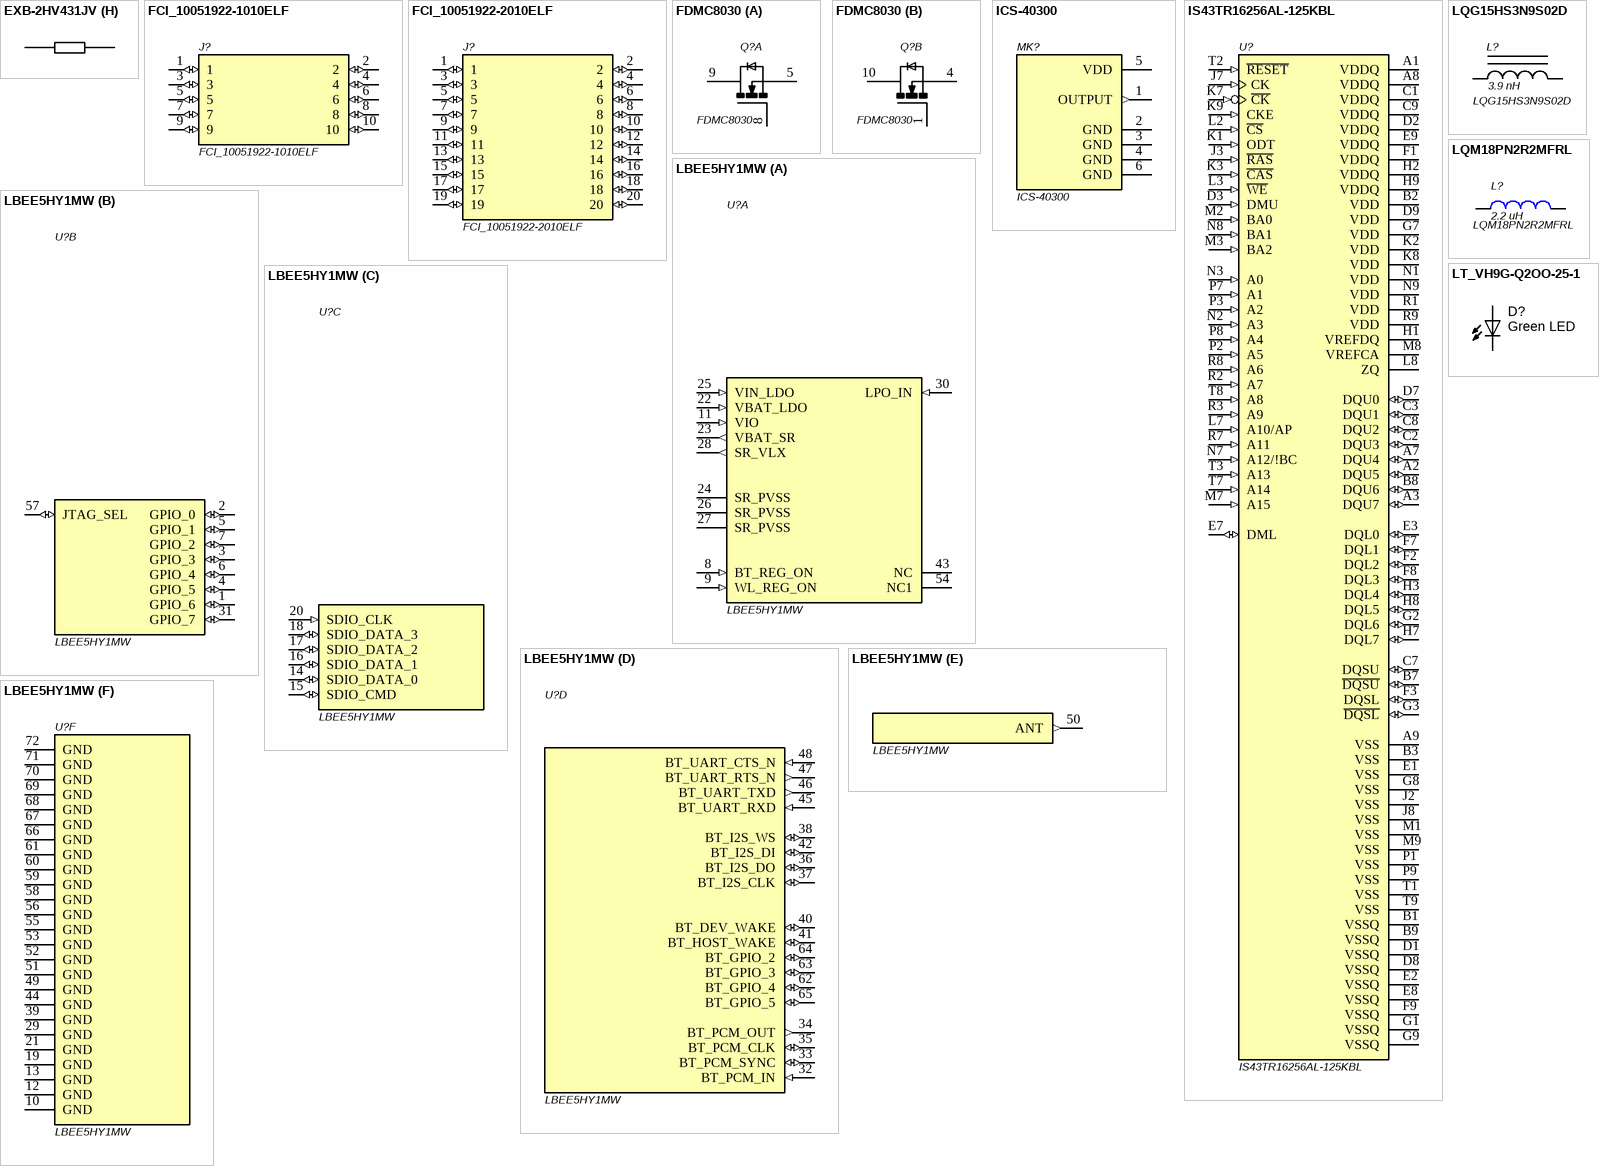
[diagram p1: symbols EXB-2HV431JV to LT_VH9G-Q2OO-25-1]

## EXB-2HV431JV
designator RN?  (value not drawn)
Res Thick Film Array; Value: 33 R
footprint *RESCAXE50P380X160X55-16N
part A pins: 1, 16 2
part B pins: 2 1, 15 2
part C pins: 3 1, 14 2
part D pins: 4 1, 13 2
part E pins: 5 1, 12 2
part F pins: 6 1, 11 2
part G pins: 7 1, 10 2
part H pins: 8 1, 9 2

## FCI_10051922-1010ELF
designator J?
0.50mm FFC/FPC Connectors 10CKT RA SMT ZIF CON BOTTOM CONTACT; Manufacturer 1: Amphenol FCI; Actuator Material: Nylon,Glass,Polyamide; Number of Contacts: 10; Contact Resistance: 30mR; Current Rating: 500mA; Voltage Rating: 50V; Insulation Resistance: 100MR; Gender: Female; Pitch: 0.5mm; Supplier 1: Digi-Key; Manufacturer Part Number 1: 10051922-1010ELF; Stock 1: 3851; Pricing 1: 1=0,85000, 10=0,74400, 25=0,70080, 50=0,67140, 100=0,64230, 250=0,58388, 500=0,52550, 1000=0,46710 (USD); RoHS: Yes; Mount: Surface Mount; Contact Material: Copper Alloy,Bronze; Contact Plating: Gold; Housing Color: Natural; Housing Material: Polymer; Min Operating Temperature: -55°C; Max Operating Temperature: 85°C; Number of Rows: 1; Termination: Solder; Orientation: Right Angle; Packaging: Tape and Reel; Package Quantity: 4500; Number of Positions: 10; Contact Location: Bottom; Max Voltage Rating (AC): 50V; Max Voltage Rating (DC): 50V; Length: 7.5mm; Depth: 3.4mm; Width: 3.4mm; Radiation Hardening: No; REACH SVHC: No SVHC; Lead Free: Lead Free; Flammability Rating: UL94 V-0; ComponentLink1URL: https://datasheet.ciiva.com/1437/10051922-1437495.pdf?src-supplier=Element14; ComponentLink1Description: https://datasheet.ciiva.com/1437/10051922-1437495.pdf?src-supplier=Element14; ComponentLink2URL: https://datasheet.ciiva.com/15176/getdatasheetpartid-131484-15176375.pdf?src-supplier=Verical; ComponentLink2Description: https://datasheet.ciiva.com/15176/getdatasheetpartid-131484-15176375.pdf?src-supplier=Verical; ComponentLink3URL: https://datasheet.ciiva.com/670/10051922-670057.pdf?src-supplier=Digi-Key; ComponentLink3Description: https://datasheet.ciiva.com/670/10051922-670057.pdf?src-supplier=Digi-Key; ComponentLink4URL: https://datasheet.ciiva.com/670/10051922-670058.pdf?src-supplier=Digi-Key; ComponentLink4Description: https://datasheet.ciiva.com/670/10051922-670058.pdf?src-supplier=Digi-Key; ComponentLink5URL: https://datasheet.ciiva.com/5136/fcicmd-catcustomerdrawingproductname-10051922-1010elf-5136554.pdf?src-supplier=Mouser; ComponentLink5Description: https://datasheet.ciiva.com/5136/fcicmd-catcustomerdrawingproductname-10051922-1010elf-5136554.pdf?src-supplier=Mouser; ComponentLink6URL: https://datasheet.ciiva.com/670/10051922-670059.pdf?src-supplier=Digi-Key; ComponentLink6Description: https://datasheet.ciiva.com/670/10051922-670059.pdf?src-supplier=Digi-Key; ComponentLink7URL: https://datasheet.ciiva.com/10367/10051922-10367679.pdf?src-supplier=Avnet; ComponentLink7Description: https://datasheet.ciiva.com/10367/10051922-10367679.pdf?src-supplier=Avnet; Supplier 2: Mouser; Manufacturer 2: Amphenol FCI; Manufacturer Part Number 2: 10051922-1010ELF; Stock 2: 5616; Pricing 2: 1=0,85000, 10=0,67200, 50=0,67200, 100=0,64300, 250=0,58400, 500=0,52600, 1000=0,46800, 2500=0,40300, 4500=0,38500, 9000=0,34600, 10000=0,34600 (USD); Supplier Part Number 1: 609-1234-1-ND; Supplier Part Number 2: 649-10051922-1010ELF
footprint *FCI_10051922-1010ELF (Footprint not found)
pins: 1 (io), 2 (io), 3 (io), 4 (io), 5 (io), 6 (io), 7 (io), 8 (io), 9 (io), 10 (io)

## FCI_10051922-2010ELF
designator J?
0.50mm FFC/FPC Connectors 20CKT RA SMT ZIF CON BOTTOM CONTACT; Manufacturer 1: Amphenol FCI; Actuator Material: Nylon,Glass,Polyamide; Number of Contacts: 20; Contact Resistance: 30mR; Current Rating: 500mA; Voltage Rating: 50V; Insulation Resistance: 100MR; Pitch: 0.5mm; Supplier 1: Digi-Key; Manufacturer Part Number 1: 10051922-2010ELF; Stock 1: 913; Pricing 1: 1=0,73000, 10=0,64500, 25=0,60760, 50=0,58220, 100=0,55680, 250=0,50624, 500=0,45560, 1000=0,40498 (USD); RoHS: Yes; Mount: Surface Mount; Contact Material: Copper Alloy,Bronze,Copper; Contact Plating: Gold; Housing Color: Natural; Housing Material: Polymer; Min Operating Temperature: -55°C; Max Operating Temperature: 85°C; Number of Rows: 1; Termination: Solder; Orientation: Right Angle; Packaging: Tape and Reel; Package Quantity: 4500; Number of Positions: 20; Contact Location: Bottom; Max Voltage Rating (AC): 50V; Max Voltage Rating (DC): 50V; Length: 12.5mm; Depth: 3.4mm; Width: 3.4mm; Radiation Hardening: No; REACH SVHC: No SVHC; Lead Free: Lead Free; Flammability Rating: UL94 V-0; ComponentLink1URL: https://datasheet.ciiva.com/673/10051922-673159.pdf?src-supplier=Digi-Key; ComponentLink1Description: https://datasheet.ciiva.com/673/10051922-673159.pdf?src-supplier=Digi-Key; ComponentLink2URL: https://datasheet.ciiva.com/1437/10051922-1437497.pdf?src-supplier=Element14; ComponentLink2Description: https://datasheet.ciiva.com/1437/10051922-1437497.pdf?src-supplier=Element14; ComponentLink3URL: https://datasheet.ciiva.com/16658/10051922-16658794.pdf?src-supplier=Avnet+Europe; ComponentLink3Description: https://datasheet.ciiva.com/16658/10051922-16658794.pdf?src-supplier=Avnet+Europe; ComponentLink4URL: https://datasheet.ciiva.com/673/10051922-673158.pdf?src-supplier=Digi-Key; ComponentLink4Description: https://datasheet.ciiva.com/673/10051922-673158.pdf?src-supplier=Digi-Key; Supplier 2: Mouser; Manufacturer 2: Amphenol FCI; Manufacturer Part Number 2: 10051922-2010ELF; Stock 2: 2006; Pricing 2: 1=0,73000, 10=0,58300, 50=0,58300, 100=0,50700, 500=0,45600, 1000=0,40500, 2500=0,34600, 9000=0,30700, 10000=0,30700, 22500=0,30000 (USD); Supplier Part Number 1: 609-1240-1-ND; Supplier Part Number 2: 649-10051922-2010ELF
footprint *FCI_10051922-2010ELF
pins: 1 (io), 2 (io), 3 (io), 4 (io), 5 (io), 6 (io), 7 (io), 8 (io), 9 (io), 10 (io), 11 (io), 12 (io), 13 (io), 14 (io), 15 (io), 16 (io), 17 (io), 18 (io), 19 (io), 20 (io)

## FDMC8030
designator Q?
Mosfet Array 2 N-Channel (Dual) 40V 12A 800mW Surface Mount 8-Power33 (3x3); Manufacturer 1: ON Semiconductor / Fairchild; Rise Time: 3ns; Turn-On Delay Time: 7ns; Turn-Off Delay Time: 19ns; Gate to Source Voltage (Vgs): 12V; Rds On Max: 10mR; Input Capacitance: 1.975nF; Number of Elements: 1; Supplier 1: Mouser; Manufacturer Part Number 1: FDMC8030; Stock 1: 20975; Pricing 1: 1=0,85000, 10=0,72800, 50=0,72800, 100=0,56000, 500=0,49500, 1000=0,39000, 3000=0,34600, 9000=0,33300, 10000=0,33300, 24000=0,32300, 45000=0,31300 (USD); RoHS: Yes; Mount: Surface Mount; Number of Pins: 8; Weight: 0.196g; Min Operating Temperature: -55°C; Max Operating Temperature: 150°C; Continuous Drain Current (ID): 12A; Packaging: Tape and Reel; Package Quantity: 3000; Drain to Source Breakdown Voltage: 40V; Drain to Source Resistance: 10mR; Power Dissipation: 800mW; Drain to Source Voltage (Vdss): 40V; Max Power Dissipation: 800mW; Fall Time: 3ns; Element Configuration: Dual; FET Type: 2 N-Channel; Length: 3mm; Height: 0.75mm; Width: 3mm; Radiation Hardening: No; ComponentLink1URL: https://datasheet.ciiva.com/11175/fdmc8030-11175489.pdf?src-supplier=Avnet; ComponentLink1Description: https://datasheet.ciiva.com/11175/fdmc8030-11175489.pdf?src-supplier=Avnet; ComponentLink2URL: https://datasheet.ciiva.com/4439/fdmc8030-103806-4439986.pdf?src-supplier=Mouser; ComponentLink2Description: https://datasheet.ciiva.com/4439/fdmc8030-103806-4439986.pdf?src-supplier=Mouser; ComponentLink3URL: https://datasheet.ciiva.com/15044/fdmc8030-15044346.pdf?src-supplier=Digi-Key; ComponentLink3Description: https://datasheet.ciiva.com/15044/fdmc8030-15044346.pdf?src-supplier=Digi-Key; Supplier Part Number 1: 512-FDMC8030
footprint *TRANS_FDMC8030
part A pins: 5 S2, 8 G2, 9 D2
part B pins: 1 G1, 4 S1, 10 D1